# Altium footprint library Oscillators.PcbLib: 5 footprints
Each footprint in its own frame and in the unit in brackets; x right, y up, seen from the top. Pads: shape width x height; smd on the part's side, far side on the other; paste and mask are expansions set on the pad; w line width, h text height; cw(c..) or ccw(c..) is an arc to the next point about the centre after c.
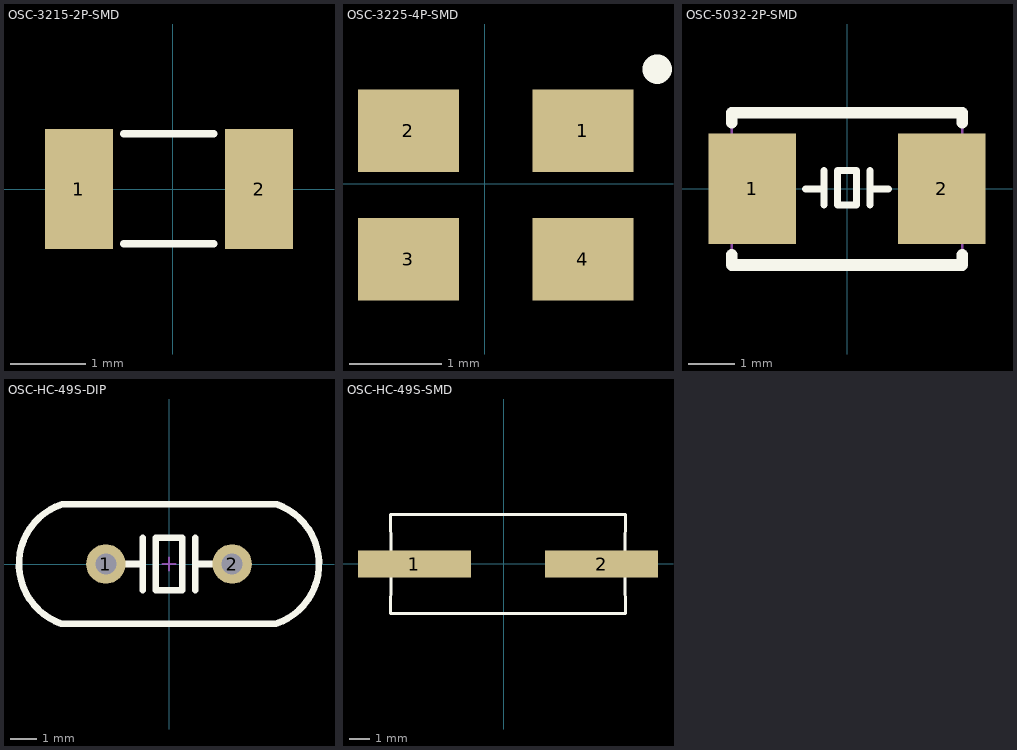
[diagram p0: the footprints below, top view; thin cyan lines are the x and y axes]

## OSC-3215-2P-SMD [mm] "Crystal Oscillator"
pads (2):
  rect 0.9x1.6 smd mask+0.05: 1(-1.249,0) 2(1.151,0)
Top Overlay:
  lines w0.1: -0.65,-0.73 0.55,-0.73 ; -0.65,0.74 0.55,0.74
3D body "User Library-NDK_NX3215SA.step": height 0.8, standoff 0, extent -1.6,-0.75 1.6,0.75

## OSC-3225-4P-SMD [mm] "Crystal Oscillator"
height 1.45
pads (4):
  rect 1.1x0.9 smd: 1(1.07,0.58) 2(-0.83,0.58) 3(-0.83,-0.82) 4(1.07,-0.82)
Top Overlay:
  circle w0.3: c1.88,1.25 r0.009
3D body "User Library-3225-1.STEP": height 0.61, standoff 0, extent -1.48,-1.37 1.72,1.13

## OSC-5032-2P-SMD [mm] "5032-2P"
pads (2):
  rect 1.9x2.4 smd mask+0.05: 1(-2.05,0) 2(2.05,0)
Top Overlay:
  lines w0.152: -0.9,0 -0.5,0 ; -0.5,-0.35 -0.5,0.4 ; 0.5,-0.35 0.5,0.4 ; 0.5,0 0.9,0 ; -0.201,-0.351 -0.201,0.399 0.201,0.399 0.201,-0.351 -0.201,-0.351
  lines w0.254: -2.5,-1.431 -2.5,-1.65 2.5,-1.65 2.5,-1.431 ; -2.5,1.431 -2.5,1.65 2.5,1.65 2.5,1.431
Mechanical 15:
  region: -2.44,-1.6 -2.44,-1.575 -2.475,-1.54 -2.525,-1.54 -2.56,-1.575 -2.56,-1.6 -2.56,-1.625 -2.525,-1.66 -2.475,-1.66 -2.44,-1.625
  region: 1.2,1 2.5,1 2.5,-1 1.2,-1
  region: -2.5,1 -1.2,1 -1.2,-1 -2.5,-1
  lines w0.051: -2.5,-1.6 -2.5,1.6 2.5,1.6 2.5,-1.6 -2.5,-1.6
3D body "User Library-ABM3-1.STEP": height 1.3, standoff 0, extent -2.5,-1.65 2.5,1.55

## OSC-HC-49S-DIP [mm] "Crystal Oscillator"
height 1.75
pads (2):
  round 1.5 hole 0.8: 1(-2.4,0) 2(2.4,0)
Top Overlay:
  lines w0.254: -4.09,-2.275 4.059,-2.275 ccw(c3.298,0.003) 4.09,2.271 ; -4.09,-2.271 cw(c-3.298,-0.003) -4.059,2.275 4.09,2.275 ; -1.6,0 -1,0 ; -1,-1 -1,1 ; 1,-1 1,1 ; 1,0 1.6,0 ; -0.5,-1 -0.5,1 0.5,1 0.5,-1 -0.5,-1
Mechanical 15:
  lines w0.076: -0.254,0 0.254,0 ; 0,-0.254 0,0.254
3D body "SW3dPS-HP49US.STEP": height 3.5, standoff -4, extent -5.675,-2.35 5.675,2.3

## OSC-HC-49S-SMD [mm] "Crystal Oscillator"
pads (2):
  rect 5.5x1.3 smd: 1(-4.353,-0.019) 2(4.753,-0.019)
Top Overlay:
  lines w0.152: -5.515,-2.432 5.915,-2.432 ; -5.515,-2.432 -5.5,-0.681 -5.515,-2.432 ; -5.515,-2.432 5.915,-2.432 ; -5.515,2.394 -5.5,0.644 -5.515,2.394 ; -5.515,2.394 5.915,2.394 ; -5.515,2.394 5.915,2.394 ; 5.915,-2.432 5.9,-0.681 5.915,-2.432 ; 5.915,2.394 5.9,0.644 5.915,2.394
3D body "User Library-Crystal HC49_US-SM.step": height 4.3, standoff 0, extent -6.2,-2.415 6.6,2.415